# Altium footprint library TO-277_3P-L5.7-W4.2-LS6.5-BR.PcbLib: 1 footprints
Each footprint in its own frame and in the unit in brackets; x right, y up, seen from the top. Pads: shape width x height; smd on the part's side, far side on the other; paste and mask are expansions set on the pad; w line width, h text height; cw(c..) or ccw(c..) is an arc to the next point about the centre after c.
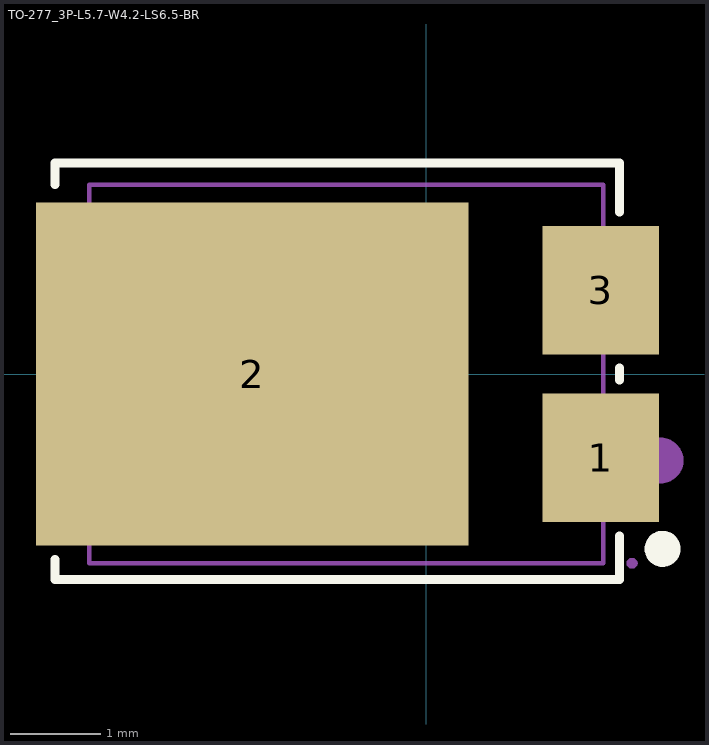
[diagram p0: the footprint, top view; thin cyan lines are the x and y axes]

## TO-277_3P-L5.7-W4.2-LS6.5-BR [mm]
pads (3):
  rect 1.29x1.422 smd: 1(1.933,-0.93) 3(1.933,0.93)
  rect 4.8x3.8 smd: 2(-1.933,0)
Top Overlay:
  circle w0.2: c2.62,-1.94 r0.1
  lines w0.1: -4.12,-2.06 -4.12,-2.28 2.14,-2.28 2.14,-1.795 ; -4.12,2.1 -4.12,2.34 2.14,2.34 2.14,1.795 ; 2.14,-0.065 2.14,0.065
Mechanical 6:
  circle w0.254: c2.6,-0.96 r0.127
Mechanical 15:
  region: 2.343,-2.1 2.342,-2.076 2.307,-2.042 2.259,-2.042 2.224,-2.076 2.223,-2.1 2.224,-2.124 2.259,-2.157 2.307,-2.157 2.342,-2.124 2.343,-2.1
  region: -3.42,-0.86 -4.24,-0.86 -4.24,0.94 -3.42,0.94 -3.42,1.6 0.16,1.6 0.16,-1.48 -3.42,-1.48
  region: 1.383,-0.467 2.283,-0.467 2.283,-1.392 1.383,-1.392
  region: 1.383,1.393 2.283,1.393 2.283,0.468 1.383,0.468
  lines w0.051: -3.74,-2.1 -3.74,2.1 1.96,2.1 1.96,-2.1 -3.74,-2.1